# EAGLE library part ENCODER_RGB_CA (library COM-10984)
Illuminated Rotary Encoder w/ CA RGB LED and select switch
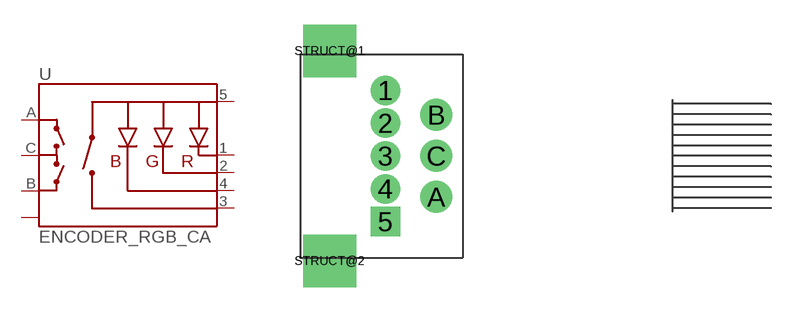
[diagram p0: symbol with the pads of EC12PSD-020; footprint EC12PSD-020]

Designator prefix -

## ENCODER_RGB_CA  [EC12PSD-020]
1  -R  pas
2  -G  pas
3  SW  pas
4  -B  pas
5  +  pas
A  A
B  B
C  C
STRUCT@1  CASE  nc
STRUCT@2  CASE  nc

## Footprint EC12PSD-020 (pad centres in mm)
Rotary Encoder - Illuminated (RGB, right-angle) SFE ID: COM-10984 Datasheet: http://dlnmh9ip6v2uc.cloudfront.net/datasheets/Components/Switches/EC12PLRGBSDHF-B-25K-24-24C-3108-6H(SPEC).pdf Dimensional drawings: http://dlnmh9ip6v2uc.cloudfront.net/datasheets/Components/Switches/EC12PLRGBSDHF-B-25K-24-24C-3108-6H.pdf
drill 1.2: 1 -3.1,4; 2 -3.1,2; 3 -3.1,0; 4 -3.1,-2
drill 1.2 square: 5 -3.1,-4
drill 1.3: A 0,-2.5; B 0,2.5; C 0,0
drill 2.2 square: STRUCT@1 -6.5,6.4; STRUCT@2 -6.5,-6.4